# EAGLE library part HEADER_16PIN_VERTICAL (library Fitch_Eagle_Library)
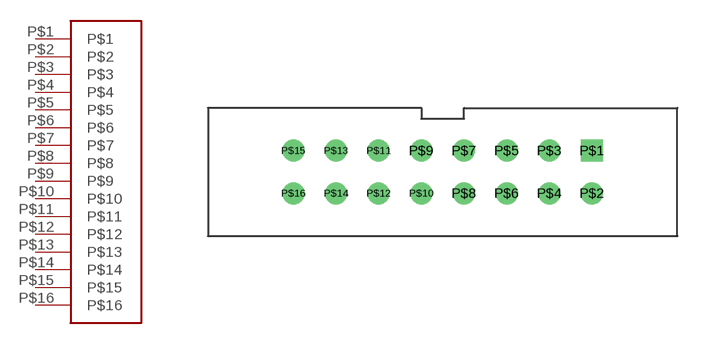
[diagram p12: symbol with the pads of HEADER_16PIN_VERTICAL; footprint HEADER_16PIN_VERTICAL]

Designator prefix -

## HEADER_16PIN_VERTICAL  [HEADER_16PIN_VERTICAL]
P$1  P$1
P$2  P$2
P$3  P$3
P$4  P$4
P$5  P$5
P$6  P$6
P$7  P$7
P$8  P$8
P$9  P$9
P$10  P$10
P$11  P$11
P$12  P$12
P$13  P$13
P$14  P$14
P$15  P$15
P$16  P$16

## Footprint HEADER_16PIN_VERTICAL (pad centres in mm)
drill 0.8 square: P$1 8.89,1.27
drill 0.8: P$2 8.89,-1.27; P$3 6.35,1.27; P$4 6.35,-1.27; P$5 3.81,1.27; P$6 3.81,-1.27; P$7 1.27,1.27; P$8 1.27,-1.27; P$9 -1.27,1.27; P$10 -1.27,-1.27; P$11 -3.81,1.27; P$12 -3.81,-1.27; P$13 -6.35,1.27; P$14 -6.35,-1.27; P$15 -8.89,1.27; P$16 -8.89,-1.27